# Altium integrated library Molex Modular Jack Right Angle.IntLib: 395 symbols (part 5 of 9)
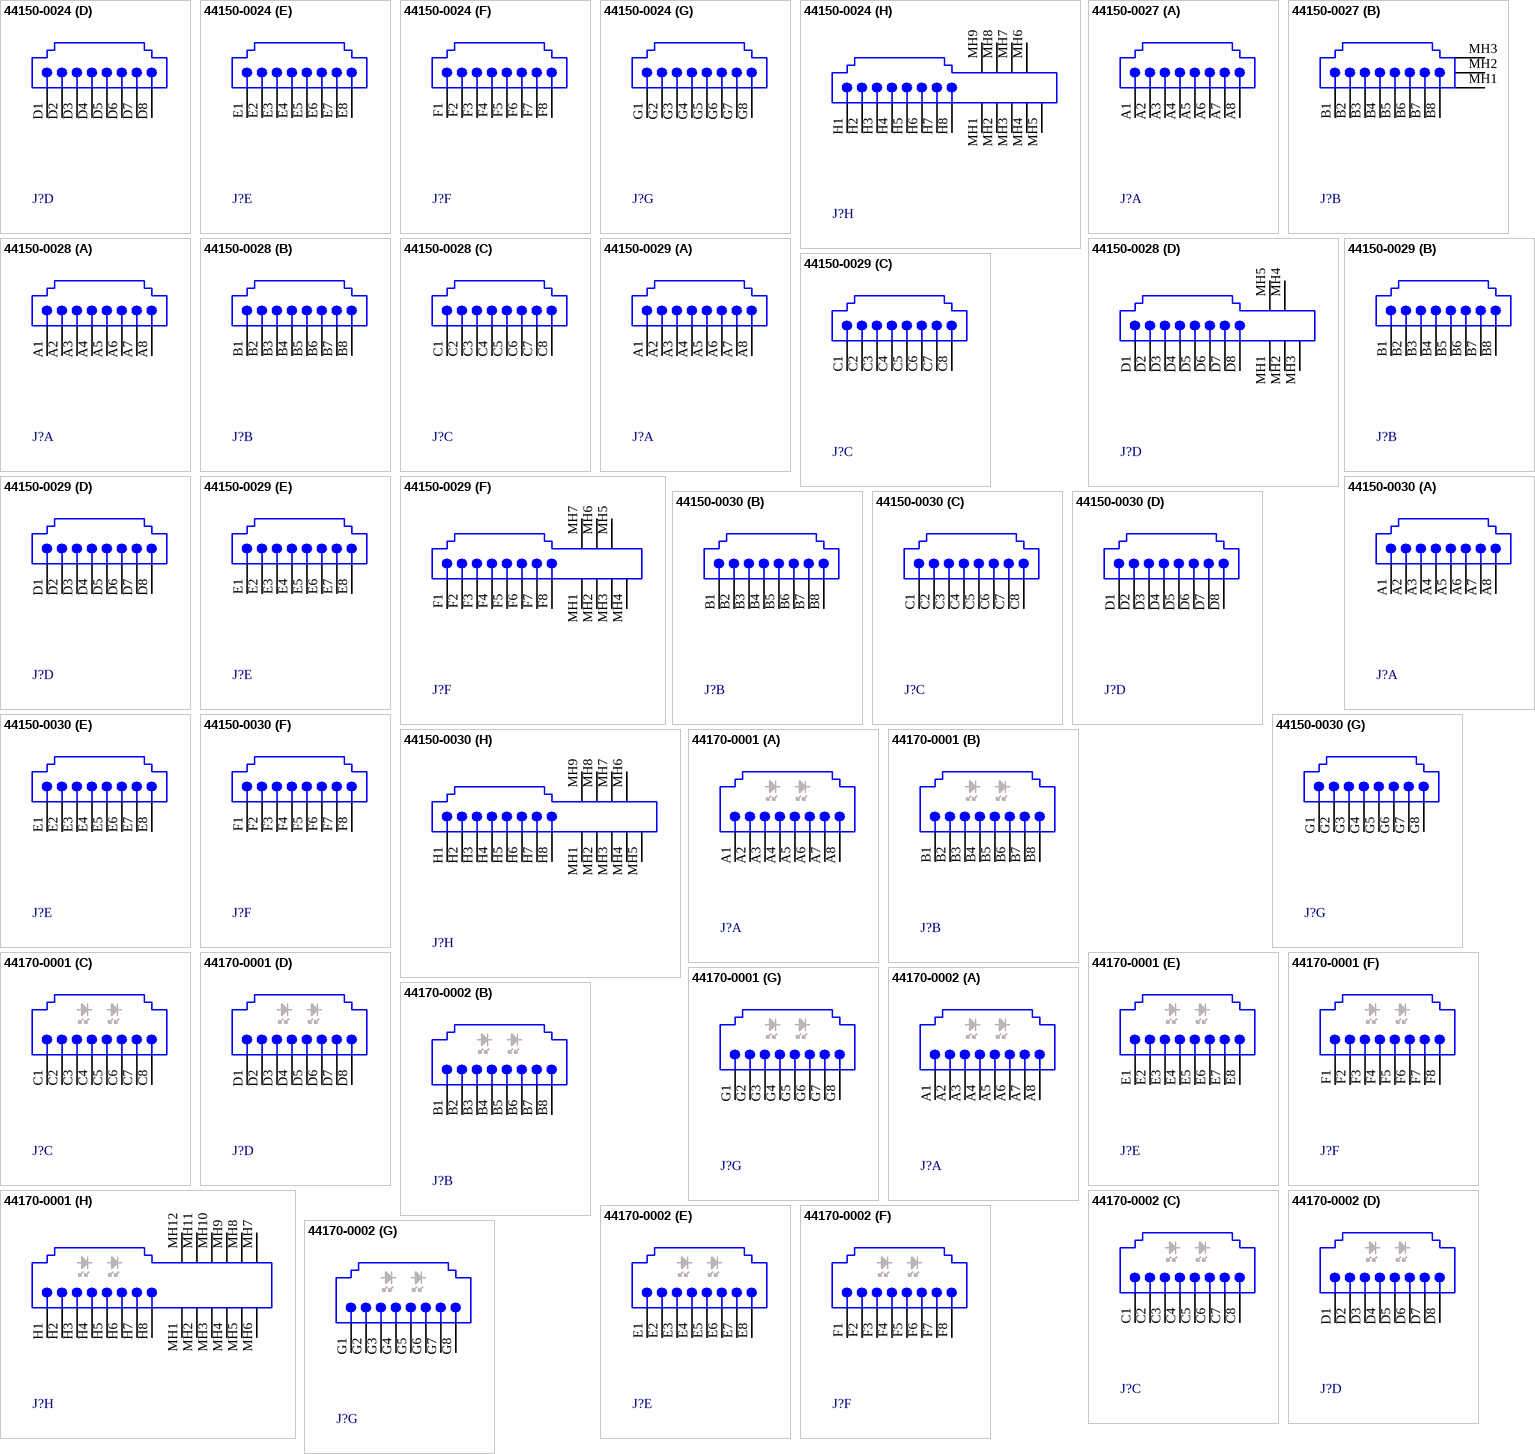
[diagram p28: symbols 44150-0024 to 44170-0002]

## 44170-0001
designator J?
High Speed, Stacked, Multi-Port, Right Angle, Snap-Fit Pegs, Shielded with Lightpipes Modular Jack; ManufacturerRecommends: LED Package type 0805 or 0603; Ports: 8; Positions/Loaded: All Ports - 8/8; PerformanceCategory: 5; PCB_Mounting: Thru-Hole; PCB_Layout: Shows Position of Manufacturer's Recommended SMT LED, Package Type 0805 shown on Mechanical Layer 1.; DrillSize: Nominal, Rounded to nearest 0.05mm; PCB_Layout: Complies with Manufacturer's Recommendation.; Published: 25-Jun-2002; DatasheetDocument: 13-Dec-2001; PackageDocument: 13-Dec-2001; PackageReference: 44170-0001; Publisher: Altium Limited; ComponentLink1Description: Manufacturer Link; ComponentLink1URL: http://www.molex.com/; ComponentLink2Description: Datasheet; ComponentLink2URL: http://www.molex.com/cmc_upload/common_files/1222003_mx44170.pdf
footprint 44170-0001 (Connector; PCB Jack, Thru-Hole; 8-Port, 8 Positions, 8 Loaded; Shielded with Lightpipes; Right Angle)
signal-integrity model Modular Jack
part A pins: A1, A2, A3, A4, A5, A6, A7, A8
part B pins: B1, B2, B3, B4, B5, B6, B7, B8
part C pins: C1, C2, C3, C4, C5, C6, C7, C8
part D pins: D1, D2, D3, D4, D5, D6, D7, D8
part E pins: E1, E2, E3, E4, E5, E6, E7, E8
part F pins: F1, F2, F3, F4, F5, F6, F7, F8
part G pins: G1, G2, G3, G4, G5, G6, G7, G8
part H pins: H1, H2, H3, H4, H5, H6, H7, H8, MH1 Shield, MH2 Shield, MH3 Shield, MH4 Shield, MH5 Shield, MH6 Shield, MH7 Shield, MH8 Shield, MH9 Shield, MH10 Shield, MH11 Shield, MH12 Shield

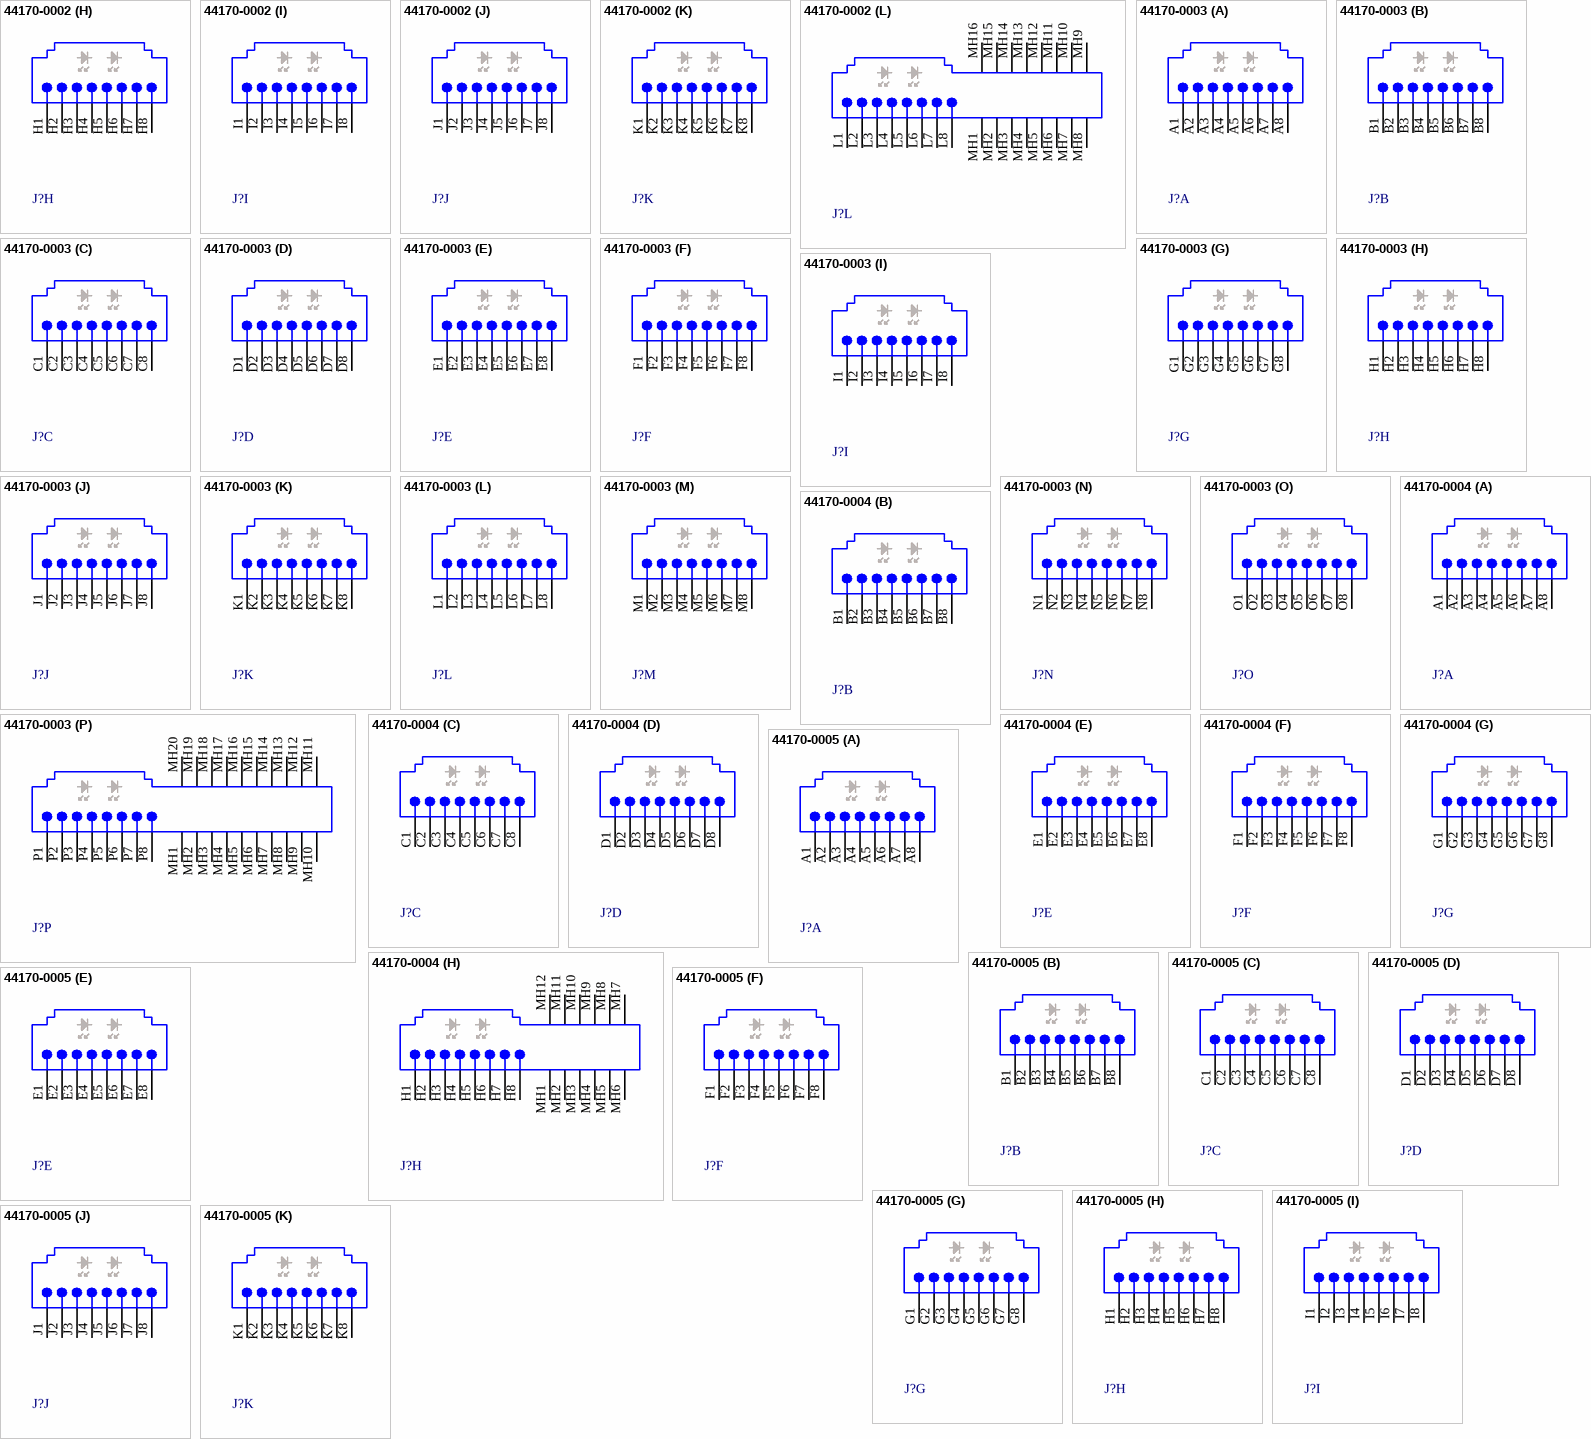
[diagram p11: symbols 44170-0002 to 44170-0005]

## 44170-0002
designator J?
High Speed, Stacked, Multi-Port, Right Angle, Snap-Fit Pegs, Shielded with Lightpipes Modular Jack; ManufacturerRecommends: LED Package type 0805 or 0603; Ports: 12; Positions/Loaded: All Ports - 8/8; PerformanceCategory: 5; PCB_Mounting: Thru-Hole; PCB_Layout: Shows Position of Manufacturer's Recommended SMT LED, Package Type 0805 shown on Mechanical Layer 1.; DrillSize: Nominal, Rounded to nearest 0.05mm; PCB_Layout: Complies with Manufacturer's Recommendation.; Published: 25-Jun-2002; DatasheetDocument: 13-Dec-2001; PackageDocument: 13-Dec-2001; PackageReference: 44170-0002; Publisher: Altium Limited; ComponentLink1Description: Manufacturer Link; ComponentLink1URL: http://www.molex.com/; ComponentLink2Description: Datasheet; ComponentLink2URL: http://www.molex.com/cmc_upload/common_files/1222003_mx44170.pdf
footprint 44170-0002 (Connector; PCB Jack, Thru-Hole; 12-Port, 8 Positions, 8 Loaded; Shielded with Lightpipes; Right Angle)
signal-integrity model Modular Jack
part A pins: A1, A2, A3, A4, A5, A6, A7, A8
part B pins: B1, B2, B3, B4, B5, B6, B7, B8
part C pins: C1, C2, C3, C4, C5, C6, C7, C8
part D pins: D1, D2, D3, D4, D5, D6, D7, D8
part E pins: E1, E2, E3, E4, E5, E6, E7, E8
part F pins: F1, F2, F3, F4, F5, F6, F7, F8
part G pins: G1, G2, G3, G4, G5, G6, G7, G8
part H pins: H1, H2, H3, H4, H5, H6, H7, H8
part I pins: I1, I2, I3, I4, I5, I6, I7, I8
part J pins: J1, J2, J3, J4, J5, J6, J7, J8
part K pins: K1, K2, K3, K4, K5, K6, K7, K8
part L pins: L1, L2, L3, L4, L5, L6, L7, L8, MH1 Shield, MH2 Shield, MH3 Shield, MH4 Shield, MH5 Shield, MH6 Shield, MH7 Shield, MH8 Shield, MH9 Shield, MH10 Shield, MH11 Shield, MH12 Shield, MH13 Shield, MH14 Shield, MH15 Shield, MH16 Shield

## 44170-0003
designator J?
High Speed, Stacked, Multi-Port, Right Angle, Snap-Fit Pegs, Shielded with Lightpipes Modular Jack; ManufacturerRecommends: LED Package type 0805 or 0603; Ports: 16; Positions/Loaded: All Ports - 8/8; PerformanceCategory: 5; PCB_Mounting: Thru-Hole; PCB_Layout: Shows Position of Manufacturer's Recommended SMT LED, Package Type 0805 shown on Mechanical Layer 1.; DrillSize: Nominal, Rounded to nearest 0.05mm; PCB_Layout: Complies with Manufacturer's Recommendation.; Published: 25-Jun-2002; DatasheetDocument: 13-Dec-2001; PackageDocument: 13-Dec-2001; PackageReference: 44170-0003; Publisher: Altium Limited; ComponentLink1Description: Manufacturer Link; ComponentLink1URL: http://www.molex.com/; ComponentLink2Description: Datasheet; ComponentLink2URL: http://www.molex.com/cmc_upload/common_files/1222003_mx44170.pdf
footprint 44170-0003 (Connector; PCB Jack, Thru-Hole; 16-Port, 8 Positions, 8 Loaded; Shielded with Lightpipes; Right Angle)
signal-integrity model Modular Jack
part A pins: A1, A2, A3, A4, A5, A6, A7, A8
part B pins: B1, B2, B3, B4, B5, B6, B7, B8
part C pins: C1, C2, C3, C4, C5, C6, C7, C8
part D pins: D1, D2, D3, D4, D5, D6, D7, D8
part E pins: E1, E2, E3, E4, E5, E6, E7, E8
part F pins: F1, F2, F3, F4, F5, F6, F7, F8
part G pins: G1, G2, G3, G4, G5, G6, G7, G8
part H pins: H1, H2, H3, H4, H5, H6, H7, H8
part I pins: I1, I2, I3, I4, I5, I6, I7, I8
part J pins: J1, J2, J3, J4, J5, J6, J7, J8
part K pins: K1, K2, K3, K4, K5, K6, K7, K8
part L pins: L1, L2, L3, L4, L5, L6, L7, L8
part M pins: M1, M2, M3, M4, M5, M6, M7, M8
part N pins: N1, N2, N3, N4, N5, N6, N7, N8
part O pins: O1, O2, O3, O4, O5, O6, O7, O8
part P pins: MH1 Shield, MH2 Shield, MH3 Shield, MH4 Shield, MH5 Shield, MH6 Shield, MH7 Shield, MH8 Shield, MH9 Shield, MH10 Shield, MH11 Shield, MH12 Shield, MH13 Shield, MH14 Shield, MH15 Shield, MH16 Shield, MH17 Shield, MH18 Shield, MH19 Shield, MH20 Shield, P1, P2, P3, P4, P5, P6, P7, P8

## 44170-0004
designator J?
High Speed, Stacked, Multi-Port, Right Angle, Press-Fit Pegs, Shielded with Lightpipes Modular Jack; ManufacturerRecommends: LED Package type 0805 or 0603; Ports: 8; Positions/Loaded: All Ports - 8/8; PerformanceCategory: 5; PCB_Mounting: Thru-Hole; PCB_Layout: Shows Position of Manufacturer's Recommended SMT LED, Package Type 0805 shown on Mechanical Layer 1.; DrillSize: Nominal, Rounded to nearest 0.05mm; PCB_Layout: Complies with Manufacturer's Recommendation.; Published: 25-Jun-2002; DatasheetDocument: 13-Dec-2001; PackageDocument: 13-Dec-2001; PackageReference: 44170-0004; Publisher: Altium Limited; ComponentLink1Description: Manufacturer Link; ComponentLink1URL: http://www.molex.com/; ComponentLink2Description: Datasheet; ComponentLink2URL: http://www.molex.com/cmc_upload/common_files/1222003_mx44170.pdf
footprint 44170-0004 (Connector; PCB Jack, Thru-Hole; 8-Port, 8 Positions, 8 Loaded; Shielded with Lightpipes; Right Angle)
signal-integrity model Modular Jack
part A pins: A1, A2, A3, A4, A5, A6, A7, A8
part B pins: B1, B2, B3, B4, B5, B6, B7, B8
part C pins: C1, C2, C3, C4, C5, C6, C7, C8
part D pins: D1, D2, D3, D4, D5, D6, D7, D8
part E pins: E1, E2, E3, E4, E5, E6, E7, E8
part F pins: F1, F2, F3, F4, F5, F6, F7, F8
part G pins: G1, G2, G3, G4, G5, G6, G7, G8
part H pins: H1, H2, H3, H4, H5, H6, H7, H8, MH1 Shield, MH2 Shield, MH3 Shield, MH4 Shield, MH5 Shield, MH6 Shield, MH7 Shield, MH8 Shield, MH9 Shield, MH10 Shield, MH11 Shield, MH12 Shield

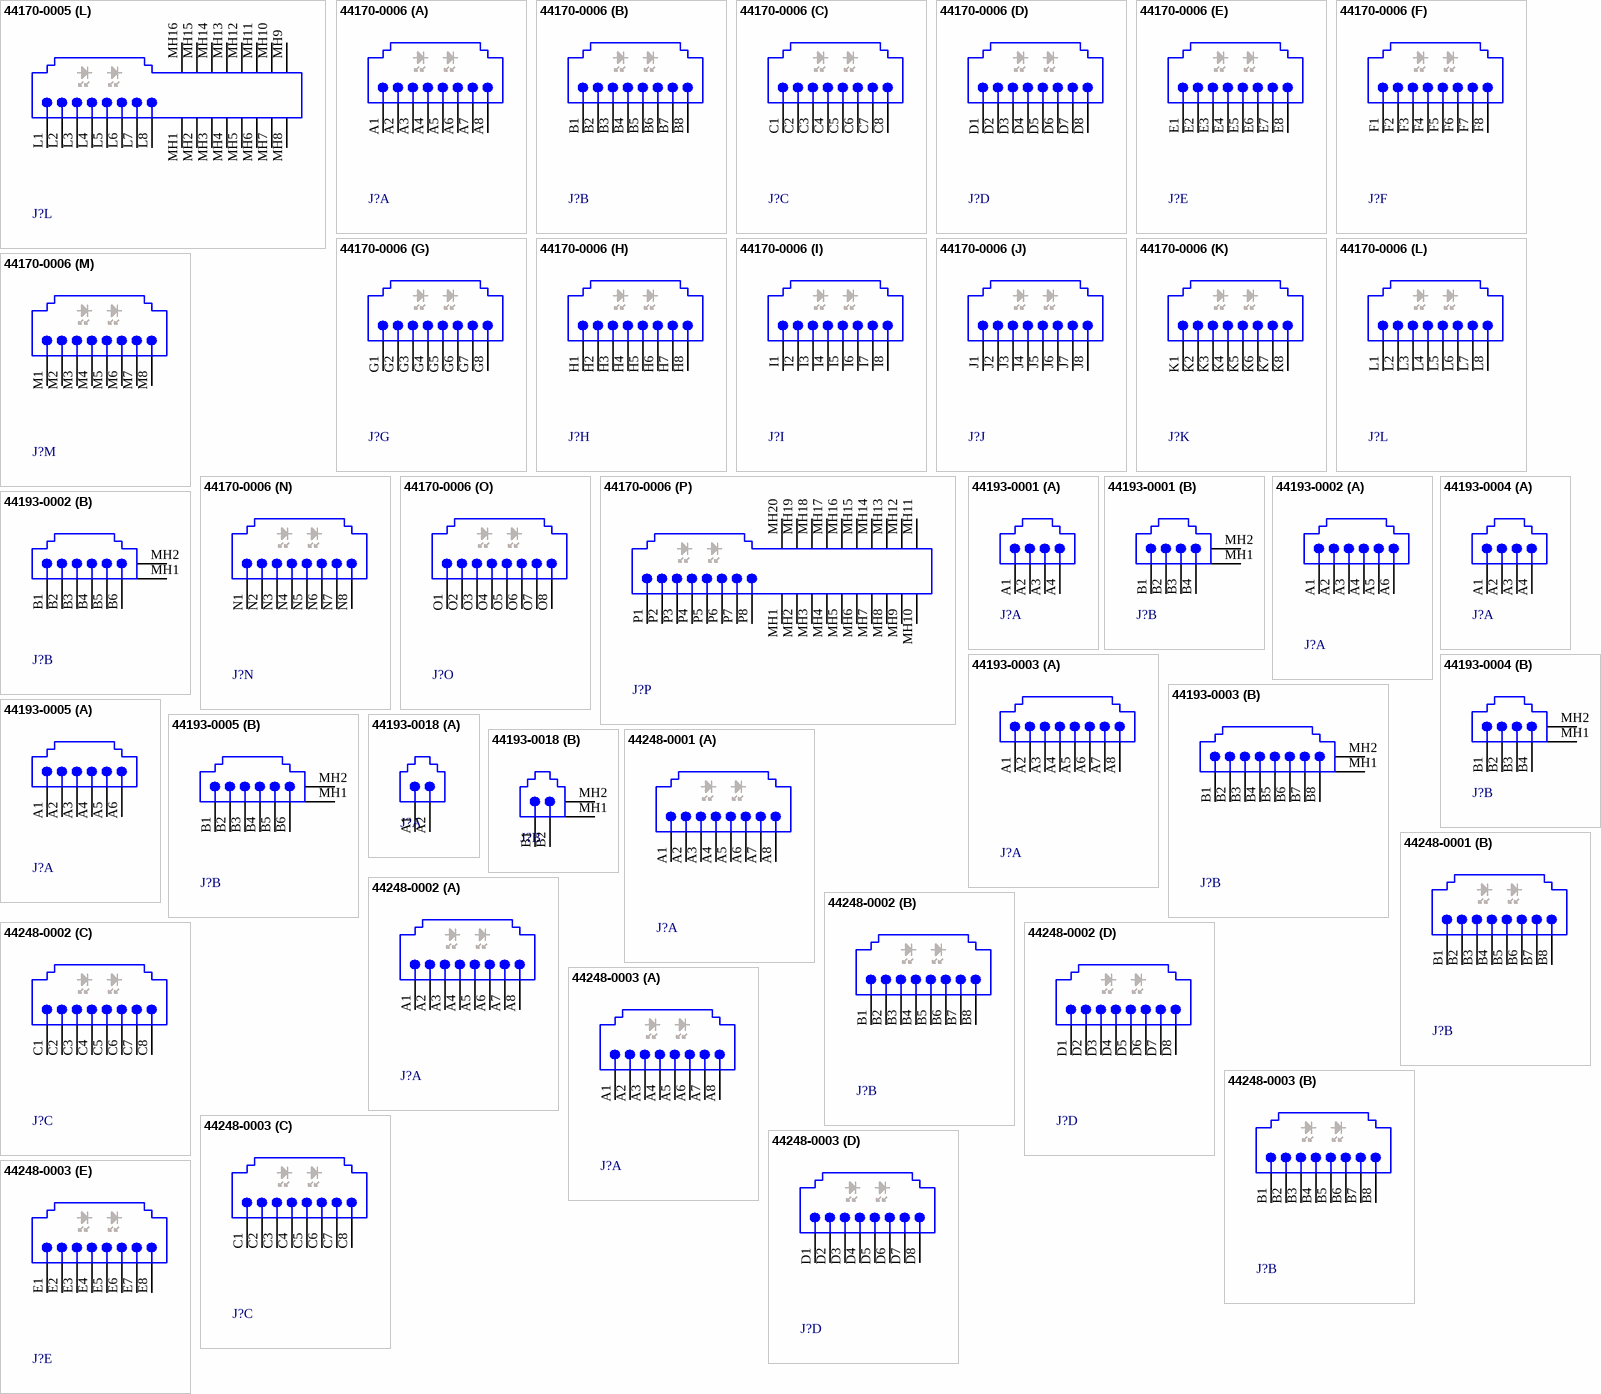
[diagram p12: symbols 44170-0005 to 44248-0003]

## 44170-0005
designator J?
High Speed, Stacked, Multi-Port, Right Angle, Press-Fit Pegs, Shielded with Lightpipes Modular Jack; ManufacturerRecommends: LED Package type 0805 or 0603; Ports: 12; Positions/Loaded: All Ports - 8/8; PerformanceCategory: 5; PCB_Mounting: Thru-Hole; PCB_Layout: Shows Position of Manufacturer's Recommended SMT LED, Package Type 0805 shown on Mechanical Layer 1.; DrillSize: Nominal, Rounded to nearest 0.05mm; PCB_Layout: Complies with Manufacturer's Recommendation.; Published: 25-Jun-2002; DatasheetDocument: 13-Dec-2001; PackageDocument: 13-Dec-2001; PackageReference: 44170-0005; Publisher: Altium Limited; ComponentLink1Description: Manufacturer Link; ComponentLink1URL: http://www.molex.com/; ComponentLink2Description: Datasheet; ComponentLink2URL: http://www.molex.com/cmc_upload/common_files/1222003_mx44170.pdf
footprint 44170-0005 (Connector; PCB Jack, Thru-Hole; 12-Port, 8 Positions, 8 Loaded; Shielded with Lightpipes; Right Angle)
signal-integrity model Modular Jack
part A pins: A1, A2, A3, A4, A5, A6, A7, A8
part B pins: B1, B2, B3, B4, B5, B6, B7, B8
part C pins: C1, C2, C3, C4, C5, C6, C7, C8
part D pins: D1, D2, D3, D4, D5, D6, D7, D8
part E pins: E1, E2, E3, E4, E5, E6, E7, E8
part F pins: F1, F2, F3, F4, F5, F6, F7, F8
part G pins: G1, G2, G3, G4, G5, G6, G7, G8
part H pins: H1, H2, H3, H4, H5, H6, H7, H8
part I pins: I1, I2, I3, I4, I5, I6, I7, I8
part J pins: J1, J2, J3, J4, J5, J6, J7, J8
part K pins: K1, K2, K3, K4, K5, K6, K7, K8
part L pins: L1, L2, L3, L4, L5, L6, L7, L8, MH1 Shield, MH2 Shield, MH3 Shield, MH4 Shield, MH5 Shield, MH6 Shield, MH7 Shield, MH8 Shield, MH9 Shield, MH10 Shield, MH11 Shield, MH12 Shield, MH13 Shield, MH14 Shield, MH15 Shield, MH16 Shield

## 44170-0006
designator J?
High Speed, Stacked, Multi-Port, Right Angle, Press-Fit Pegs, Shielded with Lightpipes Modular Jack; ManufacturerRecommends: LED Package type 0805 or 0603; Ports: 16; Positions/Loaded: All Ports - 8/8; PerformanceCategory: 5; PCB_Mounting: Thru-Hole; PCB_Layout: Shows Position of Manufacturer's Recommended SMT LED, Package Type 0805 shown on Mechanical Layer 1.; DrillSize: Nominal, Rounded to nearest 0.05mm; PCB_Layout: Complies with Manufacturer's Recommendation.; Published: 25-Jun-2002; DatasheetDocument: 13-Dec-2001; PackageDocument: 13-Dec-2001; PackageReference: 44170-0006; Publisher: Altium Limited; ComponentLink1Description: Manufacturer Link; ComponentLink1URL: http://www.molex.com/; ComponentLink2Description: Datasheet; ComponentLink2URL: http://www.molex.com/cmc_upload/common_files/1222003_mx44170.pdf
footprint 44170-0006 (Connector; PCB Jack, Thru-Hole; 16-Port, 8 Positions, 8 Loaded; Shielded with Lightpipes; Right Angle)
signal-integrity model Modular Jack
part A pins: A1, A2, A3, A4, A5, A6, A7, A8
part B pins: B1, B2, B3, B4, B5, B6, B7, B8
part C pins: C1, C2, C3, C4, C5, C6, C7, C8
part D pins: D1, D2, D3, D4, D5, D6, D7, D8
part E pins: E1, E2, E3, E4, E5, E6, E7, E8
part F pins: F1, F2, F3, F4, F5, F6, F7, F8
part G pins: G1, G2, G3, G4, G5, G6, G7, G8
part H pins: H1, H2, H3, H4, H5, H6, H7, H8
part I pins: I1, I2, I3, I4, I5, I6, I7, I8
part J pins: J1, J2, J3, J4, J5, J6, J7, J8
part K pins: K1, K2, K3, K4, K5, K6, K7, K8
part L pins: L1, L2, L3, L4, L5, L6, L7, L8
part M pins: M1, M2, M3, M4, M5, M6, M7, M8
part N pins: N1, N2, N3, N4, N5, N6, N7, N8
part O pins: O1, O2, O3, O4, O5, O6, O7, O8
part P pins: MH1 Shield, MH2 Shield, MH3 Shield, MH4 Shield, MH5 Shield, MH6 Shield, MH7 Shield, MH8 Shield, MH9 Shield, MH10 Shield, MH11 Shield, MH12 Shield, MH13 Shield, MH14 Shield, MH15 Shield, MH16 Shield, MH17 Shield, MH18 Shield, MH19 Shield, MH20 Shield, P1, P2, P3, P4, P5, P6, P7, P8

## 44193-0001
designator J?
SMT, Right Angle, Low Profile, Dual Port Modular Jack with Flush Fitting Nails; Ports: 2; Positions/Loaded: All Ports - 8/4; PerformanceCategory: 3/4; DrillSize: Nominal, Rounded to nearest 0.05mm; PCB_Layout: Complies with Manufacturer's Recommendation.; Published: 25-Jun-2002; DatasheetDocument: 19-Dec-2001; PackageDocument: 19-Dec-2001; PackageReference: 44193-0001; Publisher: Altium Limited; PCB_Mounting: SMT; ComponentLink1Description: Manufacturer Link; ComponentLink1URL: http://www.molex.com/; ComponentLink2Description: Datasheet; ComponentLink2URL: http://www.molex.com/cmc_upload/common_files/1222003_mx44193.pdf
footprint 44193-0001 (Connector; PCB Jack, SM; 2-Port, 8 Positions, 4 Loaded; Unshielded without Lightpipes; Right Angle)
signal-integrity model Modular Jack
part A pins: A1, A2, A3, A4
part B pins: B1, B2, B3, B4, MH1 Shield, MH2 Shield

## 44193-0002
designator J?
SMT, Right Angle, Low Profile, Dual Port Modular Jack with Flush Fitting Nails; Ports: 2; Positions/Loaded: All Ports - 8/6; PerformanceCategory: 3/4; DrillSize: Nominal, Rounded to nearest 0.05mm; PCB_Layout: Complies with Manufacturer's Recommendation.; Published: 25-Jun-2002; DatasheetDocument: 19-Dec-2001; PackageDocument: 19-Dec-2001; PackageReference: 44193-0002; Publisher: Altium Limited; PCB_Mounting: SMT; ComponentLink1Description: Manufacturer Link; ComponentLink1URL: http://www.molex.com/; ComponentLink2Description: Datasheet; ComponentLink2URL: http://www.molex.com/cmc_upload/common_files/1222003_mx44193.pdf
footprint 44193-0002 (Connector; PCB Jack, SM; 2-Port, 8 Positions, 6 Loaded; Unshielded without Lightpipes; Right Angle)
signal-integrity model Modular Jack
part A pins: A1, A2, A3, A4, A5, A6
part B pins: B1, B2, B3, B4, B5, B6, MH1 Shield, MH2 Shield

## 44193-0003
designator J?
SMT, Right Angle, Low Profile, Dual Port Modular Jack with Flush Fitting Nails; Ports: 2; Positions/Loaded: All Ports - 8/8; PerformanceCategory: 3/4; DrillSize: Nominal, Rounded to nearest 0.05mm; PCB_Layout: Complies with Manufacturer's Recommendation.; Published: 25-Jun-2002; DatasheetDocument: 19-Dec-2001; PackageDocument: 19-Dec-2001; PackageReference: 44193-0003; Publisher: Altium Limited; PCB_Mounting: SMT; ComponentLink1Description: Manufacturer Link; ComponentLink1URL: http://www.molex.com/; ComponentLink2Description: Datasheet; ComponentLink2URL: http://www.molex.com/cmc_upload/common_files/1222003_mx44193.pdf
footprint 44193-0003 (Connector; PCB Jack, SM; 2-Port, 8 Positions, 8 Loaded; Unshielded without Lightpipes; Right Angle)
signal-integrity model Modular Jack
part A pins: A1, A2, A3, A4, A5, A6, A7, A8
part B pins: B1, B2, B3, B4, B5, B6, B7, B8, MH1 Shield, MH2 Shield

## 44193-0004
designator J?
SMT, Right Angle, Low Profile, Dual Port Modular Jack with Flush Fitting Nails; Ports: 2; Positions/Loaded: All Ports - 6/4; PerformanceCategory: 3/4; DrillSize: Nominal, Rounded to nearest 0.05mm; PCB_Layout: Complies with Manufacturer's Recommendation.; Published: 25-Jun-2002; DatasheetDocument: 19-Dec-2001; PackageDocument: 19-Dec-2001; PackageReference: 44193-0004; Publisher: Altium Limited; PCB_Mounting: SMT; ComponentLink1Description: Manufacturer Link; ComponentLink1URL: http://www.molex.com/; ComponentLink2Description: Datasheet; ComponentLink2URL: http://www.molex.com/cmc_upload/common_files/1222003_mx44193.pdf
footprint 44193-0004 (Connector; PCB Jack, SM; 2-Port, 6 Positions, 4 Loaded; Unshielded without Lightpipes; Right Angle)
signal-integrity model Modular Jack
part A pins: A1, A2, A3, A4
part B pins: B1, B2, B3, B4, MH1 Shield, MH2 Shield

## 44193-0005
designator J?
SMT, Right Angle, Low Profile, Dual Port Modular Jack with Flush Fitting Nails; Ports: 2; Positions/Loaded: All Ports - 6/6; PerformanceCategory: 3/4; DrillSize: Nominal, Rounded to nearest 0.05mm; PCB_Layout: Complies with Manufacturer's Recommendation.; Published: 25-Jun-2002; DatasheetDocument: 19-Dec-2001; PackageDocument: 19-Dec-2001; PackageReference: 44193-0005; Publisher: Altium Limited; PCB_Mounting: SMT; ComponentLink1Description: Manufacturer Link; ComponentLink1URL: http://www.molex.com/; ComponentLink2Description: Datasheet; ComponentLink2URL: http://www.molex.com/cmc_upload/common_files/1222003_mx44193.pdf
footprint 44193-0005 (Connector; PCB Jack, SM; 2-Port, 6 Positions, 6 Loaded; Unshielded without Lightpipes; Right Angle)
signal-integrity model Modular Jack
part A pins: A1, A2, A3, A4, A5, A6
part B pins: B1, B2, B3, B4, B5, B6, MH1 Shield, MH2 Shield

## 44193-0018
designator J?
SMT, Right Angle, Low Profile, Dual Port Modular Jack with Flush Fitting Nails; Ports: 2; Positions/Loaded: All Ports - 6/2; PerformanceCategory: 3/4; DrillSize: Nominal, Rounded to nearest 0.05mm; PCB_Layout: Complies with Manufacturer's Recommendation.; Published: 25-Jun-2002; DatasheetDocument: 19-Dec-2001; PackageDocument: 19-Dec-2001; PackageReference: 44193-0018; Publisher: Altium Limited; PCB_Mounting: SMT; ComponentLink1Description: Manufacturer Link; ComponentLink1URL: http://www.molex.com/; ComponentLink2Description: Datasheet; ComponentLink2URL: http://www.molex.com/cmc_upload/common_files/1222003_mx44193.pdf
footprint 44193-0018 (Connector; PCB Jack, SM; 2-Port, 6 Positions, 2 Loaded; Unshielded without Lightpipes; Right Angle)
signal-integrity model Modular Jack
part A pins: A1, A2
part B pins: B1, B2, MH1 Shield, MH2 Shield

## 44248-0001
designator J?
Ganged, Right Angle, Low Profile Inverted, Snap-Fit, Unshielded with Lightpipes Modular Jack; ManufacturerRecommends: LED Package type 0805 or 0603; Ports: 2; Positions/Loaded: All Ports - 8/8; PerformanceCategory: 5; PCB_Mounting: Thru-Hole; PCB_Layout: Shows Position of Manufacturer's Recommended SMT LED, Package Type 0805 shown on Mechanical Layer 1.; DrillSize: Nominal, Rounded to nearest 0.05mm; PCB_Layout: Complies with Manufacturer's Recommendation.; Published: 25-Jun-2002; DatasheetDocument: 12-Dec-2001; PackageDocument: 12-Dec-2001; PackageReference: 44248-0001; Publisher: Altium Limited; ComponentLink1Description: Manufacturer Link; ComponentLink1URL: http://www.molex.com/; ComponentLink2Description: Datasheet; ComponentLink2URL: http://www.molex.com/cmc_upload/common_files/1212003_cmx44248b.pdf
footprint 44248-0001 (Connector; PCB Jack, Thru-Hole; 2-Port, 8 Positions, 8 Loaded; Unshielded with Lightpipes; Right Angle)
signal-integrity model Modular Jack
part A pins: A1, A2, A3, A4, A5, A6, A7, A8
part B pins: B1, B2, B3, B4, B5, B6, B7, B8

## 44248-0002
designator J?
Ganged, Right Angle, Low Profile Inverted, Snap-Fit, Unshielded with Lightpipes Modular Jack; ManufacturerRecommends: LED Package type 0805 or 0603; Ports: 4; Positions/Loaded: All Ports - 8/8; PerformanceCategory: 5; PCB_Mounting: Thru-Hole; PCB_Layout: Shows Position of Manufacturer's Recommended SMT LED, Package Type 0805 shown on Mechanical Layer 1.; DrillSize: Nominal, Rounded to nearest 0.05mm; PCB_Layout: Complies with Manufacturer's Recommendation.; Published: 25-Jun-2002; DatasheetDocument: 12-Dec-2001; PackageDocument: 12-Dec-2001; PackageReference: 44248-0002; Publisher: Altium Limited; ComponentLink1Description: Manufacturer Link; ComponentLink1URL: http://www.molex.com/; ComponentLink2Description: Datasheet; ComponentLink2URL: http://www.molex.com/cmc_upload/common_files/1212003_cmx44248b.pdf
footprint 44248-0002 (Connector; PCB Jack, Thru-Hole; 4-Port, 8 Positions, 8 Loaded; Unshielded with Lightpipes; Right Angle)
signal-integrity model Modular Jack
part A pins: A1, A2, A3, A4, A5, A6, A7, A8
part B pins: B1, B2, B3, B4, B5, B6, B7, B8
part C pins: C1, C2, C3, C4, C5, C6, C7, C8
part D pins: D1, D2, D3, D4, D5, D6, D7, D8

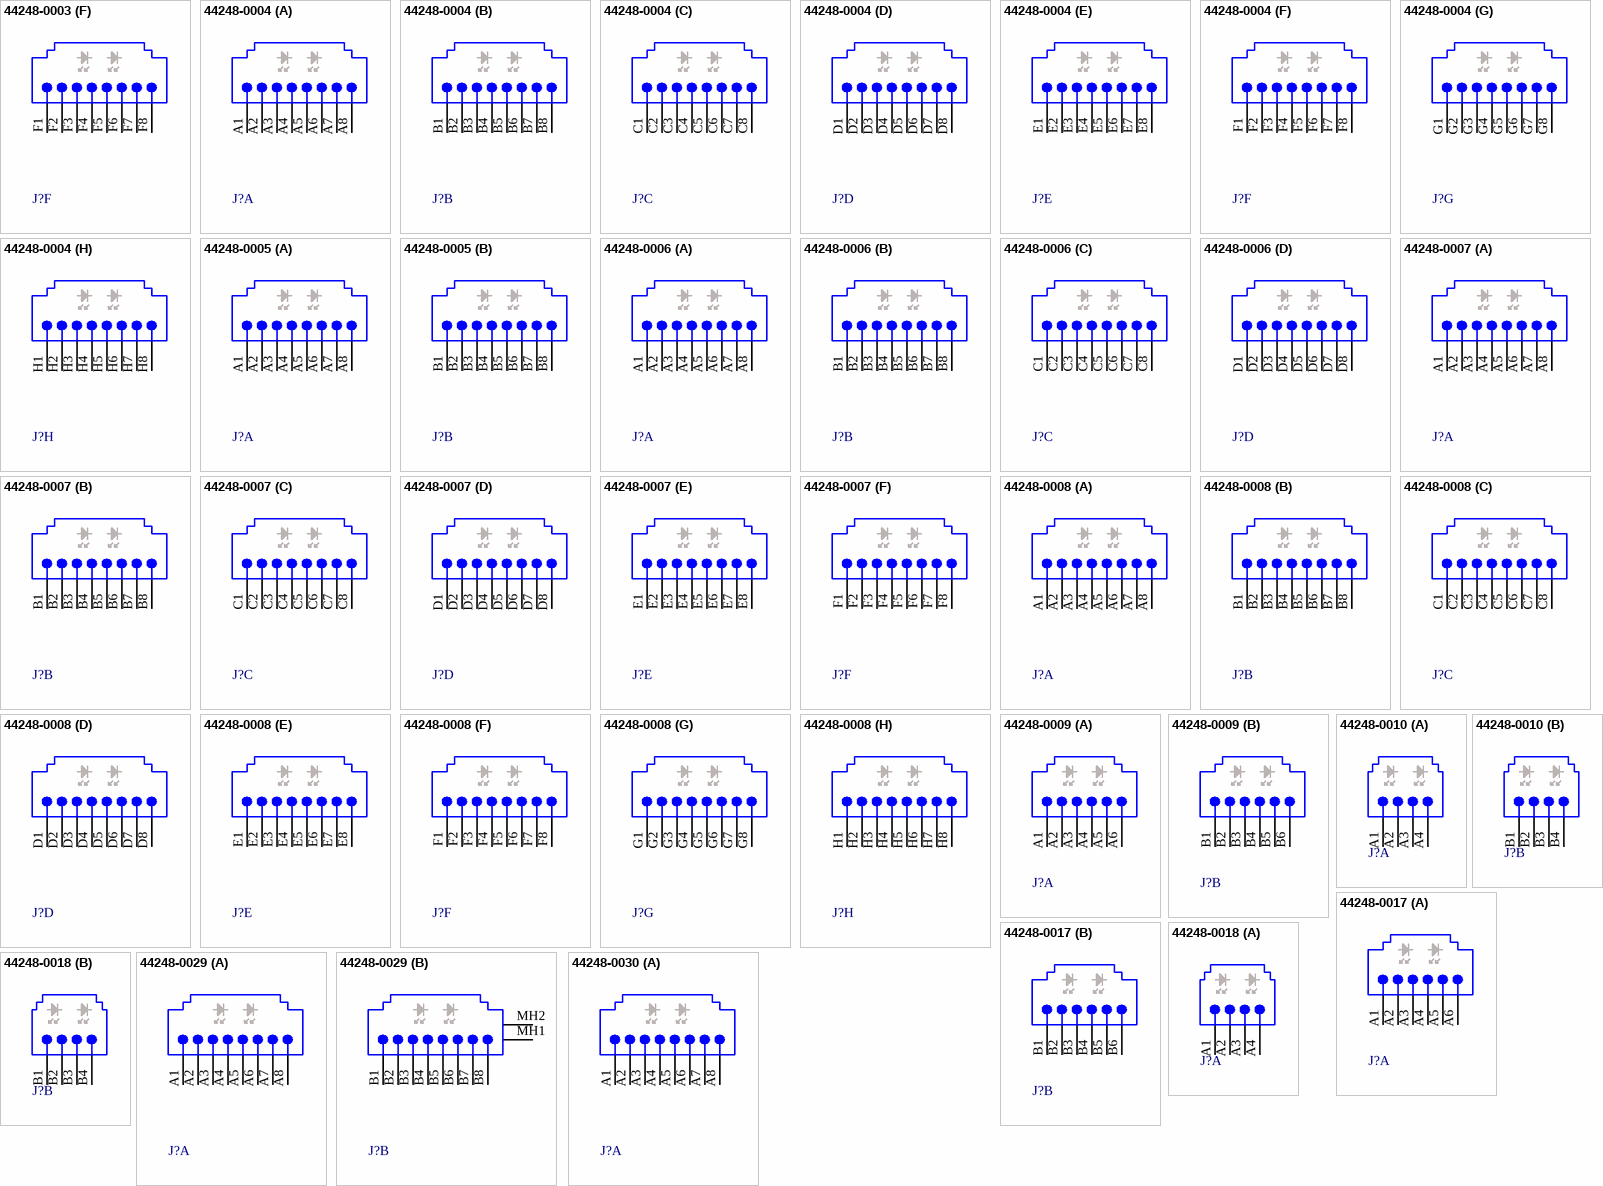
[diagram p13: symbols 44248-0003 to 44248-0030]

## 44248-0003
designator J?
Ganged, Right Angle, Low Profile Inverted, Snap-Fit, Unshielded with Lightpipes Modular Jack; ManufacturerRecommends: LED Package type 0805 or 0603; Ports: 6; Positions/Loaded: All Ports - 8/8; PerformanceCategory: 5; PCB_Mounting: Thru-Hole; PCB_Layout: Shows Position of Manufacturer's Recommended SMT LED, Package Type 0805 shown on Mechanical Layer 1.; DrillSize: Nominal, Rounded to nearest 0.05mm; PCB_Layout: Complies with Manufacturer's Recommendation.; Published: 25-Jun-2002; DatasheetDocument: 12-Dec-2001; PackageDocument: 12-Dec-2001; PackageReference: 44248-0003; Publisher: Altium Limited; ComponentLink1Description: Manufacturer Link; ComponentLink1URL: http://www.molex.com/; ComponentLink2Description: Datasheet; ComponentLink2URL: http://www.molex.com/cmc_upload/common_files/1212003_cmx44248b.pdf
footprint 44248-0003 (Connector; PCB Jack, Thru-Hole; 6-Port, 8 Positions, 8 Loaded; Unshielded with Lightpipes; Right Angle)
signal-integrity model Modular Jack
part A pins: A1, A2, A3, A4, A5, A6, A7, A8
part B pins: B1, B2, B3, B4, B5, B6, B7, B8
part C pins: C1, C2, C3, C4, C5, C6, C7, C8
part D pins: D1, D2, D3, D4, D5, D6, D7, D8
part E pins: E1, E2, E3, E4, E5, E6, E7, E8
part F pins: F1, F2, F3, F4, F5, F6, F7, F8

## 44248-0004
designator J?
Ganged, Right Angle, Low Profile Inverted, Snap-Fit, Center Peg, Unshielded with Lightpipes Modular Jack; ManufacturerRecommends: LED Package type 0805 or 0603; Ports: 8; Positions/Loaded: All Ports - 8/8; PerformanceCategory: 5; PCB_Mounting: Thru-Hole; PCB_Layout: Shows Position of Manufacturer's Recommended SMT LED, Package Type 0805 shown on Mechanical Layer 1.; DrillSize: Nominal, Rounded to nearest 0.05mm; PCB_Layout: Complies with Manufacturer's Recommendation.; Published: 25-Jun-2002; DatasheetDocument: 12-Dec-2001; PackageDocument: 12-Dec-2001; PackageReference: 44248-0004; Publisher: Altium Limited; ComponentLink1Description: Manufacturer Link; ComponentLink1URL: http://www.molex.com/; ComponentLink2Description: Datasheet; ComponentLink2URL: http://www.molex.com/cmc_upload/common_files/1212003_cmx44248b.pdf
footprint 44248-0004 (Connector; PCB Jack, Thru-Hole; 8-Port, 8 Positions, 8 Loaded; Unshielded with Lightpipes; Right Angle)
signal-integrity model Modular Jack
part A pins: A1, A2, A3, A4, A5, A6, A7, A8
part B pins: B1, B2, B3, B4, B5, B6, B7, B8
part C pins: C1, C2, C3, C4, C5, C6, C7, C8
part D pins: D1, D2, D3, D4, D5, D6, D7, D8
part E pins: E1, E2, E3, E4, E5, E6, E7, E8
part F pins: F1, F2, F3, F4, F5, F6, F7, F8
part G pins: G1, G2, G3, G4, G5, G6, G7, G8
part H pins: H1, H2, H3, H4, H5, H6, H7, H8

## 44248-0005
designator J?
Ganged, Right Angle, Low Profile Inverted, Press-Fit, Unshielded with Lightpipes Modular Jack; ManufacturerRecommends: LED Package type 0805 or 0603; Ports: 2; Positions/Loaded: All Ports - 8/8; PerformanceCategory: 5; PCB_Mounting: Thru-Hole; PCB_Layout: Shows Position of Manufacturer's Recommended SMT LED, Package Type 0805 shown on Mechanical Layer 1.; DrillSize: Nominal, Rounded to nearest 0.05mm; PCB_Layout: Complies with Manufacturer's Recommendation.; Published: 25-Jun-2002; DatasheetDocument: 12-Dec-2001; PackageDocument: 12-Dec-2001; PackageReference: 44248-0005; Publisher: Altium Limited; ComponentLink1Description: Manufacturer Link; ComponentLink1URL: http://www.molex.com/; ComponentLink2Description: Datasheet; ComponentLink2URL: http://www.molex.com/cmc_upload/common_files/1212003_cmx44248b.pdf
footprint 44248-0005 (Connector; PCB Jack, Thru-Hole; 2-Port, 8 Positions, 8 Loaded; Unshielded with Lightpipes; Right Angle)
signal-integrity model Modular Jack
part A pins: A1, A2, A3, A4, A5, A6, A7, A8
part B pins: B1, B2, B3, B4, B5, B6, B7, B8

## 44248-0006
designator J?
Ganged, Right Angle, Low Profile Inverted, Press-Fit, Unshielded with Lightpipes Modular Jack; ManufacturerRecommends: LED Package type 0805 or 0603; Ports: 4; Positions/Loaded: All Ports - 8/8; PerformanceCategory: 5; PCB_Mounting: Thru-Hole; PCB_Layout: Shows Position of Manufacturer's Recommended SMT LED, Package Type 0805 shown on Mechanical Layer 1.; DrillSize: Nominal, Rounded to nearest 0.05mm; PCB_Layout: Complies with Manufacturer's Recommendation.; Published: 25-Jun-2002; DatasheetDocument: 12-Dec-2001; PackageDocument: 12-Dec-2001; PackageReference: 44248-0006; Publisher: Altium Limited; ComponentLink1Description: Manufacturer Link; ComponentLink1URL: http://www.molex.com/; ComponentLink2Description: Datasheet; ComponentLink2URL: http://www.molex.com/cmc_upload/common_files/1212003_cmx44248b.pdf
footprint 44248-0006 (Connector; PCB Jack, Thru-Hole; 4-Port, 8 Positions, 8 Loaded; Unshielded with Lightpipes; Right Angle)
signal-integrity model Modular Jack
part A pins: A1, A2, A3, A4, A5, A6, A7, A8
part B pins: B1, B2, B3, B4, B5, B6, B7, B8
part C pins: C1, C2, C3, C4, C5, C6, C7, C8
part D pins: D1, D2, D3, D4, D5, D6, D7, D8

## 44248-0007
designator J?
Ganged, Right Angle, Low Profile Inverted, Press-Fit, Unshielded with Lightpipes Modular Jack; ManufacturerRecommends: LED Package type 0805 or 0603; Ports: 6; Positions/Loaded: All Ports - 8/8; PerformanceCategory: 5; PCB_Mounting: Thru-Hole; PCB_Layout: Shows Position of Manufacturer's Recommended SMT LED, Package Type 0805 shown on Mechanical Layer 1.; DrillSize: Nominal, Rounded to nearest 0.05mm; PCB_Layout: Complies with Manufacturer's Recommendation.; Published: 25-Jun-2002; DatasheetDocument: 12-Dec-2001; PackageDocument: 12-Dec-2001; PackageReference: 44248-0007; Publisher: Altium Limited; ComponentLink1Description: Manufacturer Link; ComponentLink1URL: http://www.molex.com/; ComponentLink2Description: Datasheet; ComponentLink2URL: http://www.molex.com/cmc_upload/common_files/1212003_cmx44248b.pdf
footprint 44248-0007 (Connector; PCB Jack, Thru-Hole; 6-Port, 8 Positions, 8 Loaded; Unshielded with Lightpipes; Right Angle)
signal-integrity model Modular Jack
part A pins: A1, A2, A3, A4, A5, A6, A7, A8
part B pins: B1, B2, B3, B4, B5, B6, B7, B8
part C pins: C1, C2, C3, C4, C5, C6, C7, C8
part D pins: D1, D2, D3, D4, D5, D6, D7, D8
part E pins: E1, E2, E3, E4, E5, E6, E7, E8
part F pins: F1, F2, F3, F4, F5, F6, F7, F8

## 44248-0008
designator J?
Ganged, Right Angle, Low Profile Inverted, Press-Fit, Center Peg, Unshielded with Lightpipes Modular Jack; ManufacturerRecommends: LED Package type 0805 or 0603; Ports: 8; Positions/Loaded: All Ports - 8/8; PerformanceCategory: 5; PCB_Mounting: Thru-Hole; PCB_Layout: Shows Position of Manufacturer's Recommended SMT LED, Package Type 0805 shown on Mechanical Layer 1.; DrillSize: Nominal, Rounded to nearest 0.05mm; PCB_Layout: Complies with Manufacturer's Recommendation.; Published: 25-Jun-2002; DatasheetDocument: 12-Dec-2001; PackageDocument: 12-Dec-2001; PackageReference: 44248-0008; Publisher: Altium Limited; ComponentLink1Description: Manufacturer Link; ComponentLink1URL: http://www.molex.com/; ComponentLink2Description: Datasheet; ComponentLink2URL: http://www.molex.com/cmc_upload/common_files/1212003_cmx44248b.pdf
footprint 44248-0008 (Connector; PCB Jack, Thru-Hole; 8-Port, 8 Positions, 8 Loaded; Unshielded with Lightpipes; Right Angle)
signal-integrity model Modular Jack
part A pins: A1, A2, A3, A4, A5, A6, A7, A8
part B pins: B1, B2, B3, B4, B5, B6, B7, B8
part C pins: C1, C2, C3, C4, C5, C6, C7, C8
part D pins: D1, D2, D3, D4, D5, D6, D7, D8
part E pins: E1, E2, E3, E4, E5, E6, E7, E8
part F pins: F1, F2, F3, F4, F5, F6, F7, F8
part G pins: G1, G2, G3, G4, G5, G6, G7, G8
part H pins: H1, H2, H3, H4, H5, H6, H7, H8

## 44248-0009
designator J?
Ganged, Right Angle, Low Profile Inverted, Snap-Fit, Unshielded with Lightpipes Modular Jack; ManufacturerRecommends: LED Package type 0805 or 0603; Ports: 2; Positions/Loaded: All Ports - 6/6; PerformanceCategory: 5; PCB_Mounting: Thru-Hole; PCB_Layout: Shows Position of Manufacturer's Recommended SMT LED, Package Type 0805 shown on Mechanical Layer 1.; DrillSize: Nominal, Rounded to nearest 0.05mm; PCB_Layout: Complies with Manufacturer's Recommendation.; Published: 25-Jun-2002; DatasheetDocument: 12-Dec-2001; PackageDocument: 12-Dec-2001; PackageReference: 44248-0009; Publisher: Altium Limited; ComponentLink1Description: Manufacturer Link; ComponentLink1URL: http://www.molex.com/; ComponentLink2Description: Datasheet; ComponentLink2URL: http://www.molex.com/cmc_upload/common_files/1212003_cmx44248b.pdf
footprint 44248-0009 (Connector; PCB Jack, Thru-Hole; 2-Port, 6 Positions, 6 Loaded; Unshielded with Lightpipes; Right Angle)
signal-integrity model Modular Jack
part A pins: A1, A2, A3, A4, A5, A6
part B pins: B1, B2, B3, B4, B5, B6

## 44248-0010
designator J?
Ganged, Right Angle, Low Profile Inverted, Snap-Fit, Unshielded with Lightpipes Modular Jack; ManufacturerRecommends: LED Package type 0805 or 0603; Ports: 2; Positions/Loaded: All Ports - 6/4; PerformanceCategory: 5; PCB_Mounting: Thru-Hole; PCB_Layout: Shows Position of Manufacturer's Recommended SMT LED, Package Type 0805 shown on Mechanical Layer 1.; DrillSize: Nominal, Rounded to nearest 0.05mm; PCB_Layout: Complies with Manufacturer's Recommendation.; Published: 25-Jun-2002; DatasheetDocument: 12-Dec-2001; PackageDocument: 12-Dec-2001; PackageReference: 44248-0010; Publisher: Altium Limited; ComponentLink1Description: Manufacturer Link; ComponentLink1URL: http://www.molex.com/; ComponentLink2Description: Datasheet; ComponentLink2URL: http://www.molex.com/cmc_upload/common_files/1212003_cmx44248b.pdf
footprint 44248-0010 (Connector; PCB Jack, Thru-Hole; 2-Port, 6 Positions, 4 Loaded; Unshielded with Lightpipes; Right Angle)
signal-integrity model Modular Jack
part A pins: A1, A2, A3, A4
part B pins: B1, B2, B3, B4

## 44248-0017
designator J?
Ganged, Right Angle, Low Profile Inverted, Press-Fit, Unshielded with Lightpipes Modular Jack; ManufacturerRecommends: LED Package type 0805 or 0603; Ports: 2; Positions/Loaded: All Ports - 6/6; PerformanceCategory: 5; PCB_Mounting: Thru-Hole; PCB_Layout: Shows Position of Manufacturer's Recommended SMT LED, Package Type 0805 shown on Mechanical Layer 1.; DrillSize: Nominal, Rounded to nearest 0.05mm; PCB_Layout: Complies with Manufacturer's Recommendation.; Published: 25-Jun-2002; DatasheetDocument: 12-Dec-2001; PackageDocument: 12-Dec-2001; PackageReference: 44248-0017; Publisher: Altium Limited; ComponentLink1Description: Manufacturer Link; ComponentLink1URL: http://www.molex.com/; ComponentLink2Description: Datasheet; ComponentLink2URL: http://www.molex.com/cmc_upload/common_files/1212003_cmx44248b.pdf
footprint 44248-0017 (Connector; PCB Jack, Thru-Hole; 2-Port, 6 Positions, 6 Loaded; Unshielded with Lightpipes; Right Angle)
signal-integrity model Modular Jack
part A pins: A1, A2, A3, A4, A5, A6
part B pins: B1, B2, B3, B4, B5, B6

## 44248-0018
designator J?
Ganged, Right Angle, Low Profile Inverted, Press-Fit, Unshielded with Lightpipes Modular Jack; ManufacturerRecommends: LED Package type 0805 or 0603; Ports: 2; Positions/Loaded: All Ports - 6/4; PerformanceCategory: 5; PCB_Mounting: Thru-Hole; PCB_Layout: Shows Position of Manufacturer's Recommended SMT LED, Package Type 0805 shown on Mechanical Layer 1.; DrillSize: Nominal, Rounded to nearest 0.05mm; PCB_Layout: Complies with Manufacturer's Recommendation.; Published: 25-Jun-2002; DatasheetDocument: 12-Dec-2001; PackageDocument: 12-Dec-2001; PackageReference: 44248-0018; Publisher: Altium Limited; ComponentLink1Description: Manufacturer Link; ComponentLink1URL: http://www.molex.com/; ComponentLink2Description: Datasheet; ComponentLink2URL: http://www.molex.com/cmc_upload/common_files/1212003_cmx44248b.pdf
footprint 44248-0018 (Connector; PCB Jack, Thru-Hole; 2-Port, 6 Positions, 4 Loaded; Unshielded with Lightpipes; Right Angle)
signal-integrity model Modular Jack
part A pins: A1, A2, A3, A4
part B pins: B1, B2, B3, B4

## 44248-0029
designator J?
Ganged, Right Angle, Low Profile Inverted, Snap-Fit, Shielded with Lightpipes Modular Jack; ManufacturerRecommends: LED Package type 0805 or 0603; Ports: 2; Positions/Loaded: All Ports - 8/8; PerformanceCategory: 5; PCB_Mounting: Thru-Hole; PCB_Layout: Shows Position of Manufacturer's Recommended SMT LED, Package Type 0805 shown on Mechanical Layer 1.; DrillSize: Nominal, Rounded to nearest 0.05mm; PCB_Layout: Complies with Manufacturer's Recommendation.; Published: 25-Jun-2002; DatasheetDocument: 12-Dec-2001; PackageDocument: 12-Dec-2001; PackageReference: 44248-0029; Publisher: Altium Limited; ComponentLink1Description: Manufacturer Link; ComponentLink1URL: http://www.molex.com/; ComponentLink2Description: Datasheet; ComponentLink2URL: http://www.molex.com/cmc_upload/common_files/1212003_cmx44248b.pdf
footprint 44248-0029 (Connector; PCB Jack, Thru-Hole; 2-Port, 8 Positions, 8 Loaded; Shielded with Lightpipes; Right Angle)
signal-integrity model Modular Jack
part A pins: A1, A2, A3, A4, A5, A6, A7, A8
part B pins: B1, B2, B3, B4, B5, B6, B7, B8, MH1 Shield, MH2 Shield

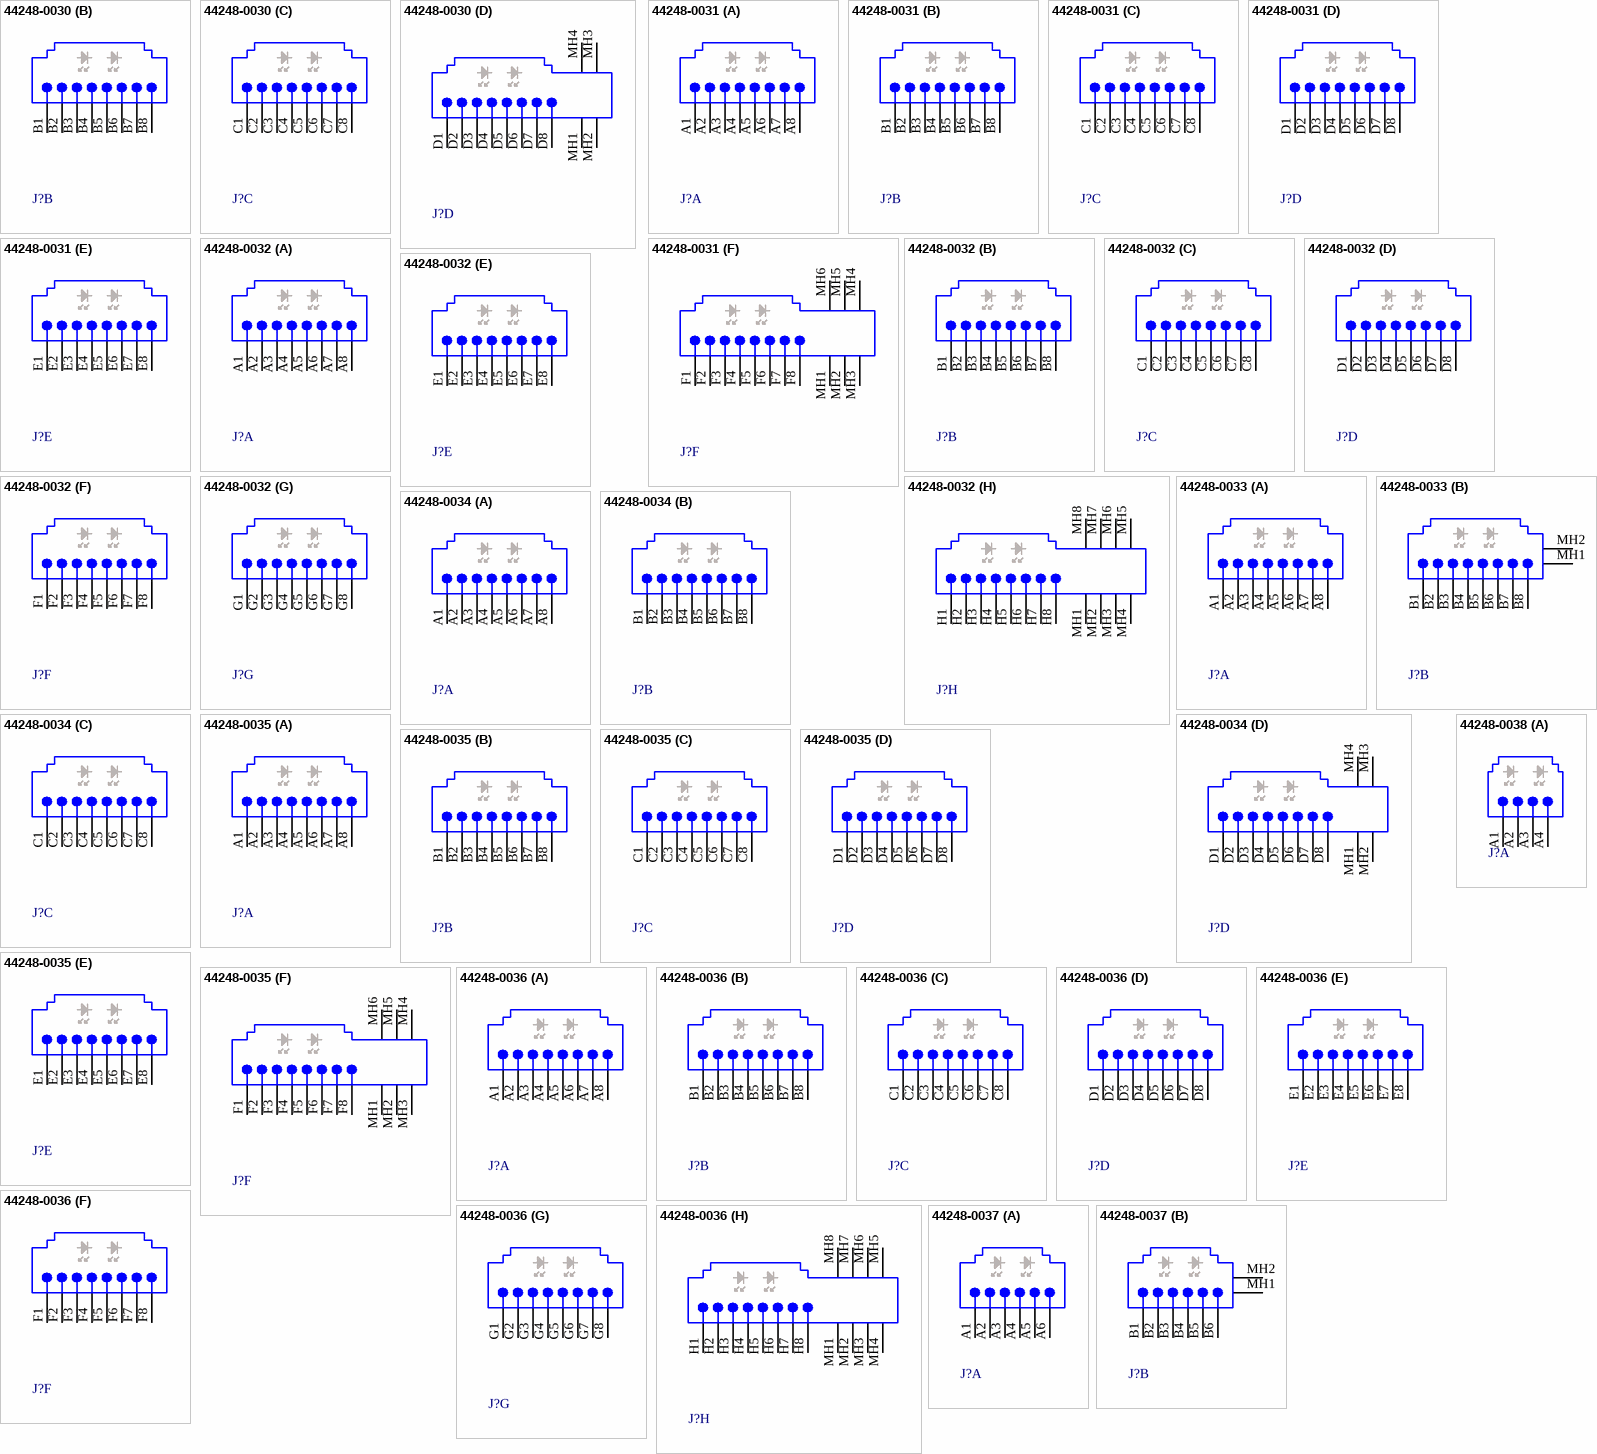
[diagram p14: symbols 44248-0030 to 44248-0038]

## 44248-0030
designator J?
Ganged, Right Angle, Low Profile Inverted, Snap-Fit, Shielded with Lightpipes Modular Jack; ManufacturerRecommends: LED Package type 0805 or 0603; Ports: 4; Positions/Loaded: All Ports - 8/8; PerformanceCategory: 5; PCB_Mounting: Thru-Hole; PCB_Layout: Shows Position of Manufacturer's Recommended SMT LED, Package Type 0805 shown on Mechanical Layer 1.; DrillSize: Nominal, Rounded to nearest 0.05mm; PCB_Layout: Complies with Manufacturer's Recommendation.; Published: 25-Jun-2002; DatasheetDocument: 12-Dec-2001; PackageDocument: 12-Dec-2001; PackageReference: 44248-0030; Publisher: Altium Limited; ComponentLink1Description: Manufacturer Link; ComponentLink1URL: http://www.molex.com/; ComponentLink2Description: Datasheet; ComponentLink2URL: http://www.molex.com/cmc_upload/common_files/1212003_cmx44248b.pdf
footprint 44248-0030 (Connector; PCB Jack, Thru-Hole; 4-Port, 8 Positions, 8 Loaded; Shielded with Lightpipes; Right Angle)
signal-integrity model Modular Jack
part A pins: A1, A2, A3, A4, A5, A6, A7, A8
part B pins: B1, B2, B3, B4, B5, B6, B7, B8
part C pins: C1, C2, C3, C4, C5, C6, C7, C8
part D pins: D1, D2, D3, D4, D5, D6, D7, D8, MH1 Shield, MH2 Shield, MH3 Shield, MH4 Shield

## 44248-0031
designator J?
Ganged, Right Angle, Low Profile Inverted, Snap-Fit, Shielded with Lightpipes Modular Jack; ManufacturerRecommends: LED Package type 0805 or 0603; Ports: 6; Positions/Loaded: All Ports - 8/8; PerformanceCategory: 5; PCB_Mounting: Thru-Hole; PCB_Layout: Shows Position of Manufacturer's Recommended SMT LED, Package Type 0805 shown on Mechanical Layer 1.; DrillSize: Nominal, Rounded to nearest 0.05mm; PCB_Layout: Complies with Manufacturer's Recommendation.; Published: 25-Jun-2002; DatasheetDocument: 12-Dec-2001; PackageDocument: 12-Dec-2001; PackageReference: 44248-0031; Publisher: Altium Limited; ComponentLink1Description: Manufacturer Link; ComponentLink1URL: http://www.molex.com/; ComponentLink2Description: Datasheet; ComponentLink2URL: http://www.molex.com/cmc_upload/common_files/1212003_cmx44248b.pdf
footprint 44248-0031 (Connector; PCB Jack, Thru-Hole; 6-Port, 8 Positions, 8 Loaded; Shielded with Lightpipes; Right Angle)
signal-integrity model Modular Jack
part A pins: A1, A2, A3, A4, A5, A6, A7, A8
part B pins: B1, B2, B3, B4, B5, B6, B7, B8
part C pins: C1, C2, C3, C4, C5, C6, C7, C8
part D pins: D1, D2, D3, D4, D5, D6, D7, D8
part E pins: E1, E2, E3, E4, E5, E6, E7, E8
part F pins: F1, F2, F3, F4, F5, F6, F7, F8, MH1 Shield, MH2 Shield, MH3 Shield, MH4 Shield, MH5 Shield, MH6 Shield

## 44248-0032
designator J?
Ganged, Right Angle, Low Profile Inverted, Snap-Fit, Center Peg, Shielded with Lightpipes Modular Jack; ManufacturerRecommends: LED Package type 0805 or 0603; Ports: 8; Positions/Loaded: All Ports - 8/8; PerformanceCategory: 5; PCB_Mounting: Thru-Hole; PCB_Layout: Shows Position of Manufacturer's Recommended SMT LED, Package Type 0805 shown on Mechanical Layer 1.; DrillSize: Nominal, Rounded to nearest 0.05mm; PCB_Layout: Complies with Manufacturer's Recommendation.; Published: 25-Jun-2002; DatasheetDocument: 12-Dec-2001; PackageDocument: 12-Dec-2001; PackageReference: 44248-0032; Publisher: Altium Limited; ComponentLink1Description: Manufacturer Link; ComponentLink1URL: http://www.molex.com/; ComponentLink2Description: Datasheet; ComponentLink2URL: http://www.molex.com/cmc_upload/common_files/1212003_cmx44248b.pdf
footprint 44248-0032 (Connector; PCB Jack, Thru-Hole; 8-Port, 8 Positions, 8 Loaded; Shielded with Lightpipes; Right Angle)
signal-integrity model Modular Jack
part A pins: A1, A2, A3, A4, A5, A6, A7, A8
part B pins: B1, B2, B3, B4, B5, B6, B7, B8
part C pins: C1, C2, C3, C4, C5, C6, C7, C8
part D pins: D1, D2, D3, D4, D5, D6, D7, D8
part E pins: E1, E2, E3, E4, E5, E6, E7, E8
part F pins: F1, F2, F3, F4, F5, F6, F7, F8
part G pins: G1, G2, G3, G4, G5, G6, G7, G8
part H pins: H1, H2, H3, H4, H5, H6, H7, H8, MH1 Shield, MH2 Shield, MH3 Shield, MH4 Shield, MH5 Shield, MH6 Shield, MH7 Shield, MH8 Shield

## 44248-0033
designator J?
Ganged, Right Angle, Low Profile Inverted, Press-Fit, Shielded with Lightpipes Modular Jack; ManufacturerRecommends: LED Package type 0805 or 0603; Ports: 2; Positions/Loaded: All Ports - 8/8; PerformanceCategory: 5; PCB_Mounting: Thru-Hole; PCB_Layout: Shows Position of Manufacturer's Recommended SMT LED, Package Type 0805 shown on Mechanical Layer 1.; DrillSize: Nominal, Rounded to nearest 0.05mm; PCB_Layout: Complies with Manufacturer's Recommendation.; Published: 25-Jun-2002; DatasheetDocument: 12-Dec-2001; PackageDocument: 12-Dec-2001; PackageReference: 44248-0033; Publisher: Altium Limited; ComponentLink1Description: Manufacturer Link; ComponentLink1URL: http://www.molex.com/; ComponentLink2Description: Datasheet; ComponentLink2URL: http://www.molex.com/cmc_upload/common_files/1212003_cmx44248b.pdf
footprint 44248-0033 (Connector; PCB Jack, Thru-Hole; 2-Port, 8 Positions, 8 Loaded; Shielded with Lightpipes; Right Angle)
signal-integrity model Modular Jack
part A pins: A1, A2, A3, A4, A5, A6, A7, A8
part B pins: B1, B2, B3, B4, B5, B6, B7, B8, MH1 Shield, MH2 Shield

## 44248-0034
designator J?
Ganged, Right Angle, Low Profile Inverted, Press-Fit, Shielded with Lightpipes Modular Jack; ManufacturerRecommends: LED Package type 0805 or 0603; Ports: 4; Positions/Loaded: All Ports - 8/8; PerformanceCategory: 5; PCB_Mounting: Thru-Hole; PCB_Layout: Shows Position of Manufacturer's Recommended SMT LED, Package Type 0805 shown on Mechanical Layer 1.; DrillSize: Nominal, Rounded to nearest 0.05mm; PCB_Layout: Complies with Manufacturer's Recommendation.; Published: 25-Jun-2002; DatasheetDocument: 12-Dec-2001; PackageDocument: 12-Dec-2001; PackageReference: 44248-0034; Publisher: Altium Limited; ComponentLink1Description: Manufacturer Link; ComponentLink1URL: http://www.molex.com/; ComponentLink2Description: Datasheet; ComponentLink2URL: http://www.molex.com/cmc_upload/common_files/1212003_cmx44248b.pdf
footprint 44248-0034 (Connector; PCB Jack, Thru-Hole; 4-Port, 8 Positions, 8 Loaded; Shielded with Lightpipes; Right Angle)
signal-integrity model Modular Jack
part A pins: A1, A2, A3, A4, A5, A6, A7, A8
part B pins: B1, B2, B3, B4, B5, B6, B7, B8
part C pins: C1, C2, C3, C4, C5, C6, C7, C8
part D pins: D1, D2, D3, D4, D5, D6, D7, D8, MH1 Shield, MH2 Shield, MH3 Shield, MH4 Shield

## 44248-0035
designator J?
Ganged, Right Angle, Low Profile Inverted, Press-Fit, Shielded with Lightpipes Modular Jack; ManufacturerRecommends: LED Package type 0805 or 0603; Ports: 6; Positions/Loaded: All Ports - 8/8; PerformanceCategory: 5; PCB_Mounting: Thru-Hole; PCB_Layout: Shows Position of Manufacturer's Recommended SMT LED, Package Type 0805 shown on Mechanical Layer 1.; DrillSize: Nominal, Rounded to nearest 0.05mm; PCB_Layout: Complies with Manufacturer's Recommendation.; Published: 25-Jun-2002; DatasheetDocument: 12-Dec-2001; PackageDocument: 12-Dec-2001; PackageReference: 44248-0035; Publisher: Altium Limited; ComponentLink1Description: Manufacturer Link; ComponentLink1URL: http://www.molex.com/; ComponentLink2Description: Datasheet; ComponentLink2URL: http://www.molex.com/cmc_upload/common_files/1212003_cmx44248b.pdf
footprint 44248-0035 (Connector; PCB Jack, Thru-Hole; 6-Port, 8 Positions, 8 Loaded; Shielded with Lightpipes; Right Angle)
signal-integrity model Modular Jack
part A pins: A1, A2, A3, A4, A5, A6, A7, A8
part B pins: B1, B2, B3, B4, B5, B6, B7, B8
part C pins: C1, C2, C3, C4, C5, C6, C7, C8
part D pins: D1, D2, D3, D4, D5, D6, D7, D8
part E pins: E1, E2, E3, E4, E5, E6, E7, E8
part F pins: F1, F2, F3, F4, F5, F6, F7, F8, MH1 Shield, MH2 Shield, MH3 Shield, MH4 Shield, MH5 Shield, MH6 Shield

## 44248-0036
designator J?
Ganged, Right Angle, Low Profile Inverted, Press-Fit, Center Peg, Shielded with Lightpipes Modular Jack; ManufacturerRecommends: LED Package type 0805 or 0603; Ports: 8; Positions/Loaded: All Ports - 8/8; PerformanceCategory: 5; PCB_Mounting: Thru-Hole; PCB_Layout: Shows Position of Manufacturer's Recommended SMT LED, Package Type 0805 shown on Mechanical Layer 1.; DrillSize: Nominal, Rounded to nearest 0.05mm; PCB_Layout: Complies with Manufacturer's Recommendation.; Published: 25-Jun-2002; DatasheetDocument: 12-Dec-2001; PackageDocument: 12-Dec-2001; PackageReference: 44248-0036; Publisher: Altium Limited; ComponentLink1Description: Manufacturer Link; ComponentLink1URL: http://www.molex.com/; ComponentLink2Description: Datasheet; ComponentLink2URL: http://www.molex.com/cmc_upload/common_files/1212003_cmx44248b.pdf
footprint 44248-0036 (Connector; PCB Jack, Thru-Hole; 8-Port, 8 Positions, 8 Loaded; Shielded with Lightpipes; Right Angle)
signal-integrity model Modular Jack
part A pins: A1, A2, A3, A4, A5, A6, A7, A8
part B pins: B1, B2, B3, B4, B5, B6, B7, B8
part C pins: C1, C2, C3, C4, C5, C6, C7, C8
part D pins: D1, D2, D3, D4, D5, D6, D7, D8
part E pins: E1, E2, E3, E4, E5, E6, E7, E8
part F pins: F1, F2, F3, F4, F5, F6, F7, F8
part G pins: G1, G2, G3, G4, G5, G6, G7, G8
part H pins: H1, H2, H3, H4, H5, H6, H7, H8, MH1 Shield, MH2 Shield, MH3 Shield, MH4 Shield, MH5 Shield, MH6 Shield, MH7 Shield, MH8 Shield

## 44248-0037
designator J?
Ganged, Right Angle, Low Profile Inverted, Snap-Fit, Shielded with Lightpipes Modular Jack; ManufacturerRecommends: LED Package type 0805 or 0603; Ports: 2; Positions/Loaded: All Ports - 6/6; PerformanceCategory: 5; PCB_Mounting: Thru-Hole; PCB_Layout: Shows Position of Manufacturer's Recommended SMT LED, Package Type 0805 shown on Mechanical Layer 1.; DrillSize: Nominal, Rounded to nearest 0.05mm; PCB_Layout: Complies with Manufacturer's Recommendation.; Published: 25-Jun-2002; DatasheetDocument: 12-Dec-2001; PackageDocument: 12-Dec-2001; PackageReference: 44248-0037; Publisher: Altium Limited; ComponentLink1Description: Manufacturer Link; ComponentLink1URL: http://www.molex.com/; ComponentLink2Description: Datasheet; ComponentLink2URL: http://www.molex.com/cmc_upload/common_files/1212003_cmx44248b.pdf
footprint 44248-0037 (Connector; PCB Jack, Thru-Hole; 2-Port, 6 Positions, 6 Loaded; Shielded with Lightpipes; Right Angle)
signal-integrity model Modular Jack
part A pins: A1, A2, A3, A4, A5, A6
part B pins: B1, B2, B3, B4, B5, B6, MH1 Shield, MH2 Shield

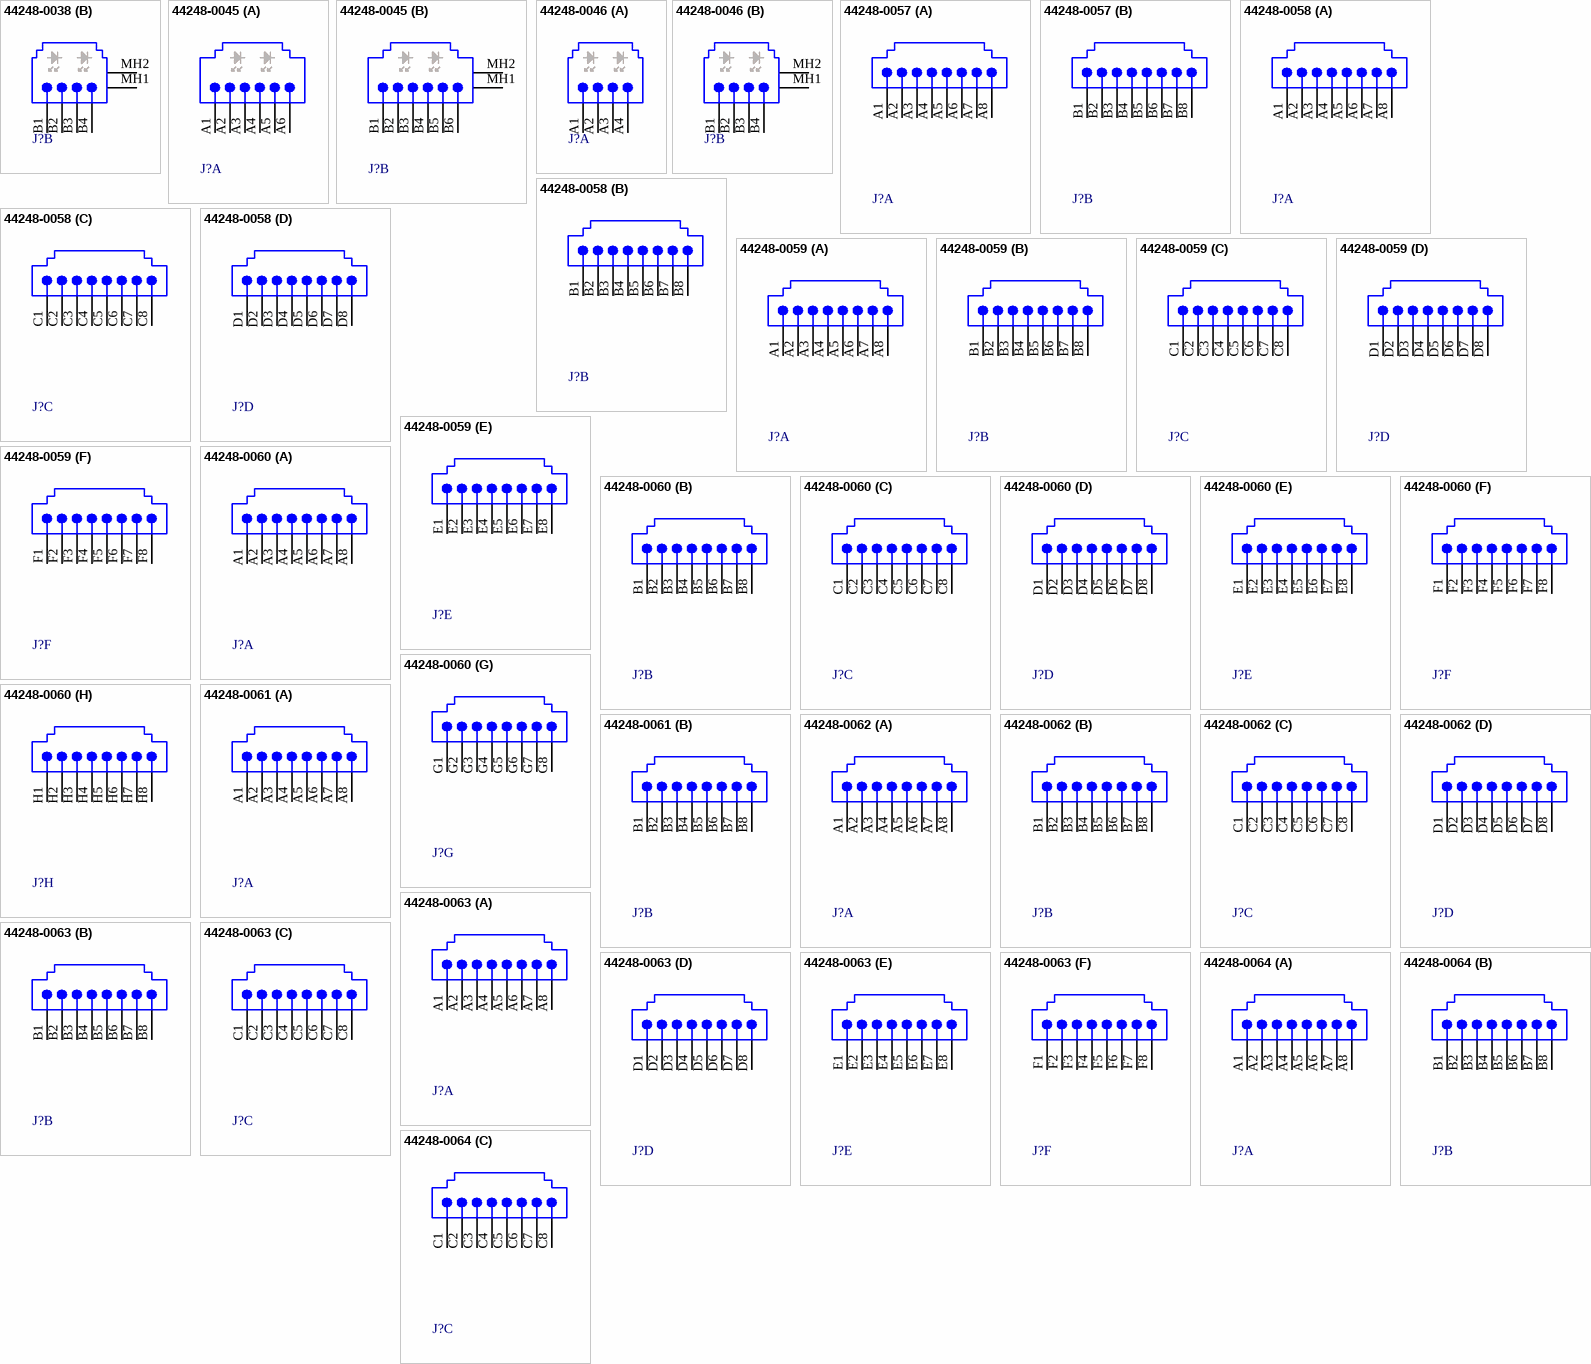
[diagram p15: symbols 44248-0038 to 44248-0064]

## 44248-0038
designator J?
Ganged, Right Angle, Low Profile Inverted, Snap-Fit, Shielded with Lightpipes Modular Jack; ManufacturerRecommends: LED Package type 0805 or 0603; Ports: 2; Positions/Loaded: All Ports - 6/4; PerformanceCategory: 5; PCB_Mounting: Thru-Hole; PCB_Layout: Shows Position of Manufacturer's Recommended SMT LED, Package Type 0805 shown on Mechanical Layer 1.; DrillSize: Nominal, Rounded to nearest 0.05mm; PCB_Layout: Complies with Manufacturer's Recommendation.; Published: 25-Jun-2002; DatasheetDocument: 12-Dec-2001; PackageDocument: 12-Dec-2001; PackageReference: 44248-0038; Publisher: Altium Limited; ComponentLink1Description: Manufacturer Link; ComponentLink1URL: http://www.molex.com/; ComponentLink2Description: Datasheet; ComponentLink2URL: http://www.molex.com/cmc_upload/common_files/1212003_cmx44248b.pdf
footprint 44248-0038 (Connector; PCB Jack, Thru-Hole; 2-Port, 6 Positions, 4 Loaded; Shielded with Lightpipes; Right Angle)
signal-integrity model Modular Jack
part A pins: A1, A2, A3, A4
part B pins: B1, B2, B3, B4, MH1 Shield, MH2 Shield

## 44248-0045
designator J?
Ganged, Right Angle, Low Profile Inverted, Press-Fit, Shielded with Lightpipes Modular Jack; ManufacturerRecommends: LED Package type 0805 or 0603; Ports: 2; Positions/Loaded: All Ports - 6/6; PerformanceCategory: 5; PCB_Mounting: Thru-Hole; PCB_Layout: Shows Position of Manufacturer's Recommended SMT LED, Package Type 0805 shown on Mechanical Layer 1.; DrillSize: Nominal, Rounded to nearest 0.05mm; PCB_Layout: Complies with Manufacturer's Recommendation.; Published: 25-Jun-2002; DatasheetDocument: 12-Dec-2001; PackageDocument: 12-Dec-2001; PackageReference: 44248-0045; Publisher: Altium Limited; ComponentLink1Description: Manufacturer Link; ComponentLink1URL: http://www.molex.com/; ComponentLink2Description: Datasheet; ComponentLink2URL: http://www.molex.com/cmc_upload/common_files/1212003_cmx44248b.pdf
footprint 44248-0045 (Connector; PCB Jack, Thru-Hole; 2-Port, 6 Positions, 6 Loaded; Shielded with Lightpipes; Right Angle)
signal-integrity model Modular Jack
part A pins: A1, A2, A3, A4, A5, A6
part B pins: B1, B2, B3, B4, B5, B6, MH1 Shield, MH2 Shield

## 44248-0046
designator J?
Ganged, Right Angle, Low Profile Inverted, Press-Fit, Shielded with Lightpipes Modular Jack; ManufacturerRecommends: LED Package type 0805 or 0603; Ports: 2; Positions/Loaded: All Ports - 6/4; PerformanceCategory: 5; PCB_Mounting: Thru-Hole; PCB_Layout: Shows Position of Manufacturer's Recommended SMT LED, Package Type 0805 shown on Mechanical Layer 1.; DrillSize: Nominal, Rounded to nearest 0.05mm; PCB_Layout: Complies with Manufacturer's Recommendation.; Published: 25-Jun-2002; DatasheetDocument: 12-Dec-2001; PackageDocument: 12-Dec-2001; PackageReference: 44248-0046; Publisher: Altium Limited; ComponentLink1Description: Manufacturer Link; ComponentLink1URL: http://www.molex.com/; ComponentLink2Description: Datasheet; ComponentLink2URL: http://www.molex.com/cmc_upload/common_files/1212003_cmx44248b.pdf
footprint 44248-0046 (Connector; PCB Jack, Thru-Hole; 2-Port, 6 Positions, 4 Loaded; Shielded with Lightpipes; Right Angle)
signal-integrity model Modular Jack
part A pins: A1, A2, A3, A4
part B pins: B1, B2, B3, B4, MH1 Shield, MH2 Shield

## 44248-0057
designator J?
Ganged, Right Angle, Low Profile Inverted, Snap-Fit, Unshielded, Modular Jack; Ports: 2; Positions/Loaded: All Ports - 8/8; PerformanceCategory: 5; PCB_Mounting: Thru-Hole; DrillSize: Nominal, Rounded to nearest 0.05mm; PCB_Layout: Complies with Manufacturer's Recommendation.; Published: 25-Jun-2002; DatasheetDocument: 28-Nov-2001; PackageDocument: 28-Nov-2001; PackageReference: 44248-0057; Publisher: Altium Limited; ComponentLink1Description: Manufacturer Link; ComponentLink1URL: http://www.molex.com/; ComponentLink2Description: Datasheet; ComponentLink2URL: http://www.molex.com/cmc_upload/common_files/1212003_cmx44248a.pdf
footprint 44248-0057 (Connector; PCB Jack, Thru-Hole; 2-Port, 8 Positions, 8 Loaded; Unshielded without Lightpipes; Right Angle)
signal-integrity model Modular Jack
part A pins: A1, A2, A3, A4, A5, A6, A7, A8
part B pins: B1, B2, B3, B4, B5, B6, B7, B8

## 44248-0058
designator J?
Ganged, Right Angle, Low Profile Inverted, Snap-Fit, Unshielded, Modular Jack; Ports: 4; Positions/Loaded: All Ports - 8/8; PerformanceCategory: 5; PCB_Mounting: Thru-Hole; DrillSize: Nominal, Rounded to nearest 0.05mm; PCB_Layout: Complies with Manufacturer's Recommendation.; Published: 25-Jun-2002; DatasheetDocument: 28-Nov-2001; PackageDocument: 28-Nov-2001; PackageReference: 44248-0058; Publisher: Altium Limited; ComponentLink1Description: Manufacturer Link; ComponentLink1URL: http://www.molex.com/; ComponentLink2Description: Datasheet; ComponentLink2URL: http://www.molex.com/cmc_upload/common_files/1212003_cmx44248a.pdf
footprint 44248-0058 (Connector; PCB Jack, Thru-Hole; 4-Port, 8 Positions, 8 Loaded; Unshielded without Lightpipes; Right Angle)
signal-integrity model Modular Jack
part A pins: A1, A2, A3, A4, A5, A6, A7, A8
part B pins: B1, B2, B3, B4, B5, B6, B7, B8
part C pins: C1, C2, C3, C4, C5, C6, C7, C8
part D pins: D1, D2, D3, D4, D5, D6, D7, D8

## 44248-0059
designator J?
Ganged, Right Angle, Low Profile Inverted, Snap-Fit, Unshielded, Modular Jack; Ports: 6; Positions/Loaded: All Ports - 8/8; PerformanceCategory: 5; PCB_Mounting: Thru-Hole; DrillSize: Nominal, Rounded to nearest 0.05mm; PCB_Layout: Complies with Manufacturer's Recommendation.; Published: 25-Jun-2002; DatasheetDocument: 28-Nov-2001; PackageDocument: 28-Nov-2001; PackageReference: 44248-0059; Publisher: Altium Limited; ComponentLink1Description: Manufacturer Link; ComponentLink1URL: http://www.molex.com/; ComponentLink2Description: Datasheet; ComponentLink2URL: http://www.molex.com/cmc_upload/common_files/1212003_cmx44248a.pdf
footprint 44248-0059 (Connector; PCB Jack, Thru-Hole; 6-Port, 8 Positions, 8 Loaded; Unshielded without Lightpipes; Right Angle)
signal-integrity model Modular Jack
part A pins: A1, A2, A3, A4, A5, A6, A7, A8
part B pins: B1, B2, B3, B4, B5, B6, B7, B8
part C pins: C1, C2, C3, C4, C5, C6, C7, C8
part D pins: D1, D2, D3, D4, D5, D6, D7, D8
part E pins: E1, E2, E3, E4, E5, E6, E7, E8
part F pins: F1, F2, F3, F4, F5, F6, F7, F8

## 44248-0060
designator J?
Ganged, Right Angle, Low Profile Inverted, Snap-Fit, Center Peg, Unshielded, Modular Jack; Ports: 8; Positions/Loaded: All Ports - 8/8; PerformanceCategory: 5; PCB_Mounting: Thru-Hole; DrillSize: Nominal, Rounded to nearest 0.05mm; PCB_Layout: Complies with Manufacturer's Recommendation.; Published: 25-Jun-2002; DatasheetDocument: 28-Nov-2001; PackageDocument: 28-Nov-2001; PackageReference: 44248-0060; Publisher: Altium Limited; ComponentLink1Description: Manufacturer Link; ComponentLink1URL: http://www.molex.com/; ComponentLink2Description: Datasheet; ComponentLink2URL: http://www.molex.com/cmc_upload/common_files/1212003_cmx44248a.pdf
footprint 44248-0060 (Connector; PCB Jack, Thru-Hole; 8-Port, 8 Positions, 8 Loaded; Unshielded without Lightpipes; Right Angle)
signal-integrity model Modular Jack
part A pins: A1, A2, A3, A4, A5, A6, A7, A8
part B pins: B1, B2, B3, B4, B5, B6, B7, B8
part C pins: C1, C2, C3, C4, C5, C6, C7, C8
part D pins: D1, D2, D3, D4, D5, D6, D7, D8
part E pins: E1, E2, E3, E4, E5, E6, E7, E8
part F pins: F1, F2, F3, F4, F5, F6, F7, F8
part G pins: G1, G2, G3, G4, G5, G6, G7, G8
part H pins: H1, H2, H3, H4, H5, H6, H7, H8